# Altium footprint library MX1.25.PcbLib: 4 footprints
Each footprint in its own frame and in the unit in brackets; x right, y up, seen from the top. Pads: shape width x height; smd on the part's side, far side on the other; paste and mask are expansions set on the pad; w line width, h text height; cw(c..) or ccw(c..) is an arc to the next point about the centre after c.
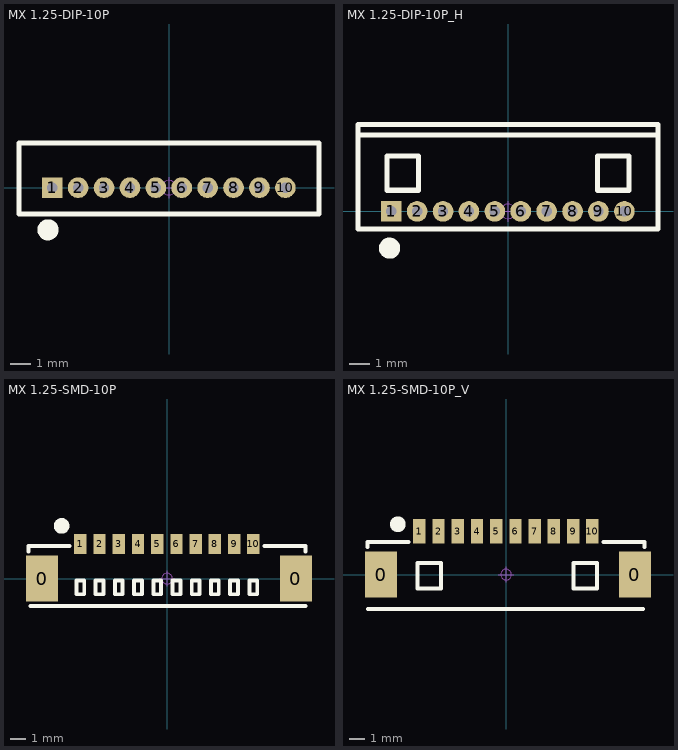
[diagram p0: the footprints below, top view; thin cyan lines are the x and y axes]

## MX 1.25-DIP-10P [mm] "10脚，长：14.5mm，宽：3.2mm，高：4.2mm"
pads (10):
  rect 1x1 hole 0.5: 1(-5.635,0)
  round 1 hole 0.5: 2(-4.385,0) 3(-3.135,0) 4(-1.885,0) 5(-0.635,0) 6(0.615,0) 7(1.865,0) 8(3.115,0) 9(4.365,0) 10(5.615,0)
Top Overlay:
  circle w0.508: c-5.842,-2.032 r0.254
  lines w0.254: -7.239,-1.27 -7.239,2.159 7.239,2.159 7.239,-1.27 -7.239,-1.27
Mechanical 15:
  circle w0.05: c0,0 r0.35
  lines w0.05: -0.5,0 0.5,0 ; 0,-0.5 0,0.5
3D body: height 4.25, standoff -2.35, extent -7.125,-1.15 7.125,2.05

## MX 1.25-DIP-10P_H [mm] "10脚，长：14.5mm，宽：1.8mm，高：3.3mm"
pads (10):
  rect 1x1 hole 0.5: 1(-5.635,0)
  round 1 hole 0.5: 2(-4.385,0) 3(-3.135,0) 4(-1.885,0) 5(-0.635,0) 6(0.615,0) 7(1.865,0) 8(3.115,0) 9(4.365,0) 10(5.615,0)
Top Overlay:
  circle w0.508: c-5.715,-1.778 r0.254
  lines w0.254: -7.239,3.683 7.239,3.683 ; -7.239,-0.85 7.239,-0.85 7.239,4.191 -7.239,4.191 -7.239,-0.85 ; -5.842,1.016 -4.318,1.016 -4.318,2.667 -5.842,2.667 -5.842,1.016 ; 4.318,1.016 4.318,2.667 5.842,2.667 5.842,1.016 4.318,1.016
Mechanical 15:
  circle w0.05: c0,0 r0.35
  lines w0.05: -0.5,0 0.5,0 ; 0,-0.5 0,0.5
3D body: height 3.35, standoff -2.1, extent -7.15,-0.85 7.15,4.05

## MX 1.25-SMD-10P [mm] "10脚，长：14.5mm，宽：3.2mm，高：4.2mm"
pads (12):
  rect 2.1x3 smd: 0(-8.128,0) 0(8.382,0)
  rect 0.8x1.3 smd: 1(-5.639,2.261) 2(-4.389,2.261) 3(-3.139,2.261) 4(-1.889,2.261) 5(-0.639,2.261) 6(0.611,2.261) 7(1.861,2.261) 8(3.111,2.261) 9(4.361,2.261) 10(5.611,2.261)
Top Overlay:
  circle w0.508: c-6.858,3.429 r0.254
  lines w0.254: -9.017,1.778 -9.017,2.134 -6.35,2.134 ; -8.89,-1.778 9.017,-1.778 ; 6.35,2.134 9.017,2.134 9.017,1.778 ; -5.893,-1.016 -5.893,-0.127 -5.385,-0.127 -5.385,-1.016 -5.893,-1.016 ; -4.643,-1.016 -4.135,-1.016 -4.135,-0.127 -4.643,-0.127 -4.643,-1.016 ; -3.393,-1.016 -2.885,-1.016 -2.885,-0.127 -3.393,-0.127 -3.393,-1.016 ; -2.143,-1.016 -1.635,-1.016 -1.635,-0.127 -2.143,-0.127 -2.143,-1.016 ; -0.893,-1.016 -0.385,-1.016 -0.385,-0.127 -0.893,-0.127 -0.893,-1.016 ; 0.357,-1.016 0.865,-1.016 0.865,-0.127 0.357,-0.127 0.357,-1.016 ; 1.607,-1.016 2.115,-1.016 2.115,-0.127 1.607,-0.127 1.607,-1.016 ; 2.857,-1.016 3.365,-1.016 3.365,-0.127 2.857,-0.127 2.857,-1.016 ; 4.107,-1.016 4.615,-1.016 4.615,-0.127 4.107,-0.127 4.107,-1.016 ; 5.357,-1.016 5.865,-1.016 5.865,-0.127 5.357,-0.127 5.357,-1.016
Mechanical 15:
  circle w0.05: c0,0 r0.35
  lines w0.05: -0.5,0 0.5,0 ; 0,-0.5 0,0.5
3D body: height 4.7, standoff 0, extent -8.825,-1.6 8.825,2.5

## MX 1.25-SMD-10P_V [mm] "10脚，长：14.5mm，宽：4.2mm，高：3.4mm"
pads (12):
  rect 2.1x3 smd: 0(-8.128,0) 0(8.382,0)
  rect 0.8x1.6 smd: 1(-5.639,2.811) 2(-4.389,2.811) 3(-3.139,2.811) 4(-1.889,2.811) 5(-0.639,2.811) 6(0.611,2.811) 7(1.861,2.811) 8(3.111,2.811) 9(4.361,2.811) 10(5.611,2.811)
Top Overlay:
  circle w0.508: c-7.036,3.277 r0.254
  lines w0.254: -9.017,1.778 -9.017,2.134 -6.35,2.134 ; -8.99,-2.228 8.917,-2.228 ; 6.35,2.134 9.017,2.134 9.017,1.778 ; -5.766,-0.889 -5.766,0.762 -4.242,0.762 -4.242,-0.889 -5.766,-0.889 ; 4.394,-0.889 4.394,0.762 5.918,0.762 5.918,-0.889 4.394,-0.889
Mechanical 15:
  circle w0.05: c0,0 r0.35
  lines w0.05: -0.5,0 0.5,0 ; 0,-0.5 0,0.5
3D body: height 3.4, standoff 0, extent -8.825,-2.1 8.825,3.09